# EAGLE library part LP3982 (library lbm)
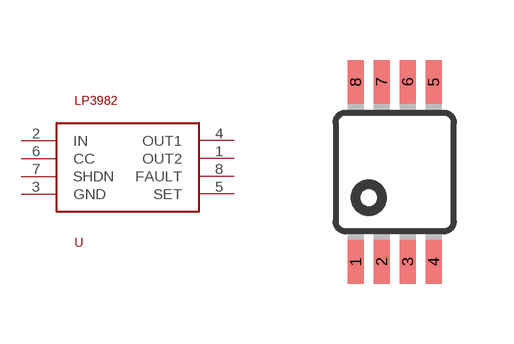
[diagram p22: symbol with the pads of MSOP8; footprint MSOP8]

Designator prefix -

## LP3982  [MSOP8]
1  OUT2
2  IN
3  GND
4  OUT1
5  SET
6  CC
7  SHDN
8  FAULT

## Footprint MSOP8 (pad centres in mm)
smd 0.4 x 1.1: 1 -0.975,-2.25; 2 -0.325,-2.25; 3 0.325,-2.25; 4 0.975,-2.25; 5 0.975,2.25; 6 0.325,2.25; 7 -0.325,2.25; 8 -0.975,2.25